# EAGLE library part CON_EDGE_22 (library wheat)
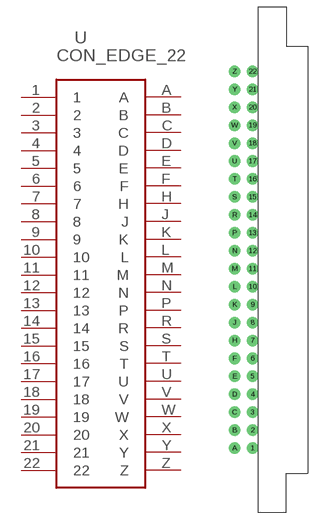
[diagram p231: symbol with the pads of CON_EDGE_22; footprint CON_EDGE_22]

Designator prefix -

## CON_EDGE_22  [CON_EDGE_22]
1  1
2  2
3  3
4  4
5  5
6  6
7  7
8  8
9  9
10  10
11  11
12  12
13  13
14  14
15  15
16  16
17  17
18  18
19  19
20  20
21  21
22  22
A  A
B  B
C  C
D  D
E  E
F  F
H  H
J  J
K  K
L  L
M  M
N  N
P  P
R  R
S  S
T  T
U  U
V  V
W  W
X  X
Y  Y
Z  Z

## Footprint CON_EDGE_22 (pad centres in mm)
drill 1.3 pad 2.54: 1 3.962,-41.605; 2 3.962,-37.643; 3 3.962,-33.68; 4 3.962,-29.718; 5 3.962,-25.756; 6 3.962,-21.793; 7 3.962,-17.831; 8 3.962,-13.868; 9 3.962,-9.906; 10 3.962,-5.944; 11 3.962,-1.981; 12 3.962,1.981; 13 3.962,5.944; 14 3.962,9.906; 15 3.962,13.868; 16 3.962,17.831; 17 3.962,21.793; 18 3.962,25.756; 19 3.962,29.718; 20 3.962,33.68; 21 3.962,37.643; 22 3.962,41.605; A 0,-41.605; B 0,-37.643; C 0,-33.68; D 0,-29.718; E 0,-25.756; F 0,-21.793; H 0,-17.831; J 0,-13.868; K 0,-9.906; L 0,-5.944; M 0,-1.981; N 0,1.981; P 0,5.944; R 0,9.906; S 0,13.868; T 0,17.831; U 0,21.793; V 0,25.756; W 0,29.718; X 0,33.68; Y 0,37.643; Z 0,41.605